# Altium schematic symbol library R1210.Schlib: 1 symbol
Pins are listed as number, name and electrical type; pins without a type are passive.

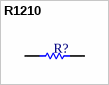
[diagram p0: symbol R1210]

## R1210
designator R?  (value not drawn)
1210 Chip Resistor - Standard
pins: 1, 2